# EAGLE library part ST6G3244ME (library joule_shield)
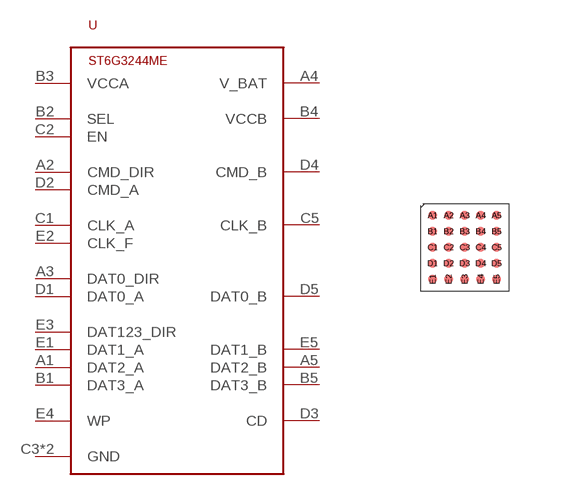
[diagram p13: symbol with the pads of FLIP-CHIP-25; footprint FLIP-CHIP-25]

Designator prefix -

## ST6G3244MEFLIP-CHIP-25  [FLIP-CHIP-25]
A1  DAT2_A
A2  CMD_DIR
A3  DAT0_DIR
A4  V_BAT
A5  DAT2_B
B1  DAT3_A
B2  SEL
B3  VCCA
B4  VCCB
B5  DAT3_B
C1  CLK_A
C2  EN
C3  GND
C4  GND
C5  CLK_B
D1  DAT0_A
D2  CMD_A
D3  CD
D4  CMD_B
D5  DAT0_B
E1  DAT1_A
E2  CLK_F
E3  DAT123_DIR
E4  WP
E5  DAT1_B

## Footprint FLIP-CHIP-25 (pad centres in mm)
smd 0.215 x 0.215: A1 -0.8,0.8; A2 -0.4,0.8; A3 0,0.8; A4 0.4,0.8; A5 0.8,0.8; B1 -0.8,0.4; B2 -0.4,0.4; B3 0,0.4; B4 0.4,0.4; B5 0.8,0.4; C1 -0.8,0; C2 -0.4,0; C3 0,0; C4 0.4,0; C5 0.8,0; D1 -0.8,-0.4; D2 -0.4,-0.4; D3 0,-0.4; D4 0.4,-0.4; D5 0.8,-0.4; E1 -0.8,-0.8; E2 -0.4,-0.8; E3 0,-0.8; E4 0.4,-0.8; E5 0.8,-0.8